# Altium footprint library SON50P160X160X65-7N.PcbLib: 1 footprints
Each footprint in its own frame and in the unit in brackets; x right, y up, seen from the top. Pads: shape width x height; smd on the part's side, far side on the other; paste and mask are expansions set on the pad; w line width, h text height; cw(c..) or ccw(c..) is an arc to the next point about the centre after c.
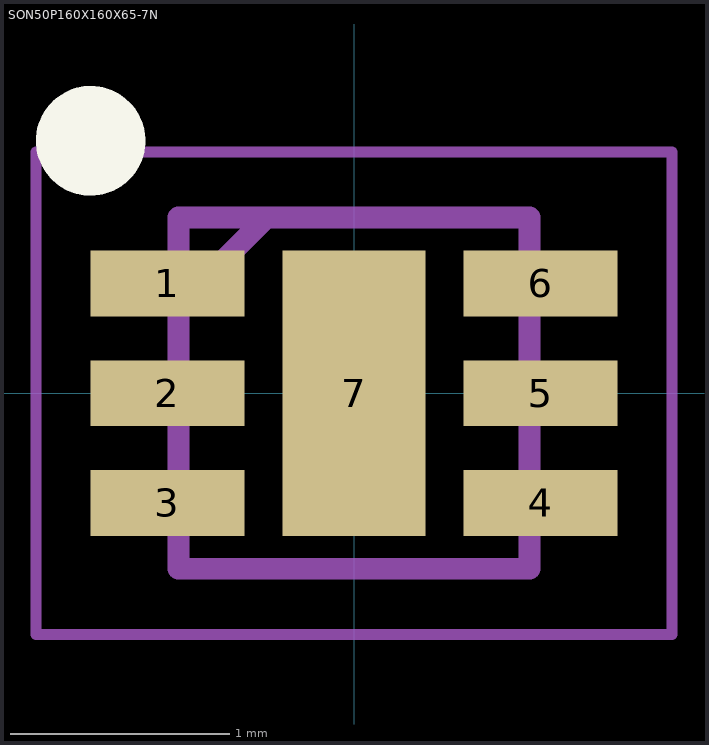
[diagram p0: the footprint, top view; thin cyan lines are the x and y axes]

## SON50P160X160X65-7N [mm]
pads (7):
  rect 0.7x0.3 smd: 1(-0.85,0.5) 2(-0.85,0) 3(-0.85,-0.5) 4(0.85,-0.5) 5(0.85,0) 6(0.85,0.5)
  rect 0.65x1.3 smd: 7(0,0)
Top Overlay:
  circle w0.25: c-1.2,1.15 r0.125
Mechanical 15:
  lines w0.1: -0.8,0.4 -0.4,0.8 ; -0.8,-0.8 0.8,-0.8 0.8,0.8 -0.8,0.8 -0.8,-0.8
Mechanical 20:
  lines w0.05: -1.45,-1.1 1.45,-1.1 1.45,1.1 -1.45,1.1 -1.45,-1.1